# Altium footprint library Heatsink_36x31x09.PcbLib: 1 footprints
Each footprint in its own frame and in the unit in brackets; x right, y up, seen from the top. Pads: shape width x height; smd on the part's side, far side on the other; paste and mask are expansions set on the pad; w line width, h text height; cw(c..) or ccw(c..) is an arc to the next point about the centre after c.
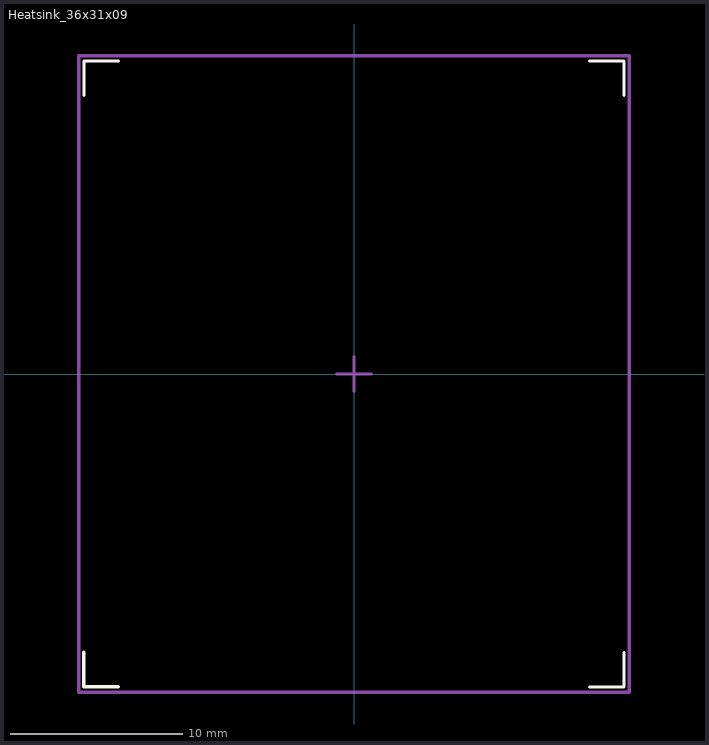
[diagram p0: the footprint, top view; thin cyan lines are the x and y axes]

## Heatsink_36x31x09 [mm]
Top Overlay:
  lines w0.2: -15.719,-16.179 -15.719,-18.179 -13.719,-18.179 ; -15.7,16.2 -15.7,18.2 -13.7,18.2 ; 13.7,-18.2 15.7,-18.2 ; 13.7,18.2 15.7,18.2 15.7,16.2 ; 15.7,-18.2 15.7,-16.2 15.7,-18.2
Mechanical 15:
  lines w0.2: -1,0 1,0 ; 0,-1 0,1 ; -16,-18.5 16,-18.5 16,18.5 -16,18.5 -16,-18.5
3D body: height 9, standoff 0.2, extent -15.5,-18 15.5,18